# Altium footprint library SOT23-5_TEXAS_INSTRUMETNS.PcbLib: 1 footprints
Each footprint in its own frame and in the unit in brackets; x right, y up, seen from the top. Pads: shape width x height; smd on the part's side, far side on the other; paste and mask are expansions set on the pad; w line width, h text height; cw(c..) or ccw(c..) is an arc to the next point about the centre after c.
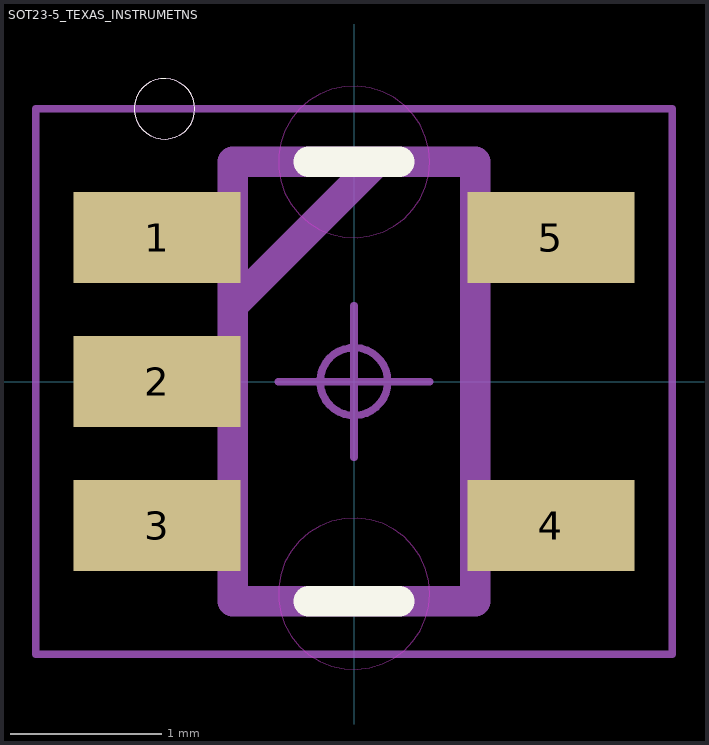
[diagram p0: the footprint, top view; thin cyan lines are the x and y axes]

## SOT23-5_TEXAS_INSTRUMETNS [mm]
pads (5):
  rect 1.1x0.6 smd paste-0.05: 1(-1.3,0.95) 2(-1.3,0) 3(-1.3,-0.95) 4(1.3,-0.95) 5(1.3,0.95)
Top Overlay:
  circle w0: c-1.25,1.8 r0.2
  lines w0.2: -0.3,-1.45 0.3,-1.45 ; -0.3,1.45 0.3,1.45
Top Paste:
  lines w0.05: -1.8,-1.15 ccw(c-1.75,-1.15) -1.75,-1.2 -0.85,-1.2 ccw(c-0.85,-1.15) -0.8,-1.15 -0.8,-0.75 ccw(c-0.85,-0.75) -0.85,-0.7 -1.75,-0.7 ccw(c-1.75,-0.75) -1.8,-0.75 -1.8,-1.15 ; -1.8,-0.2 ccw(c-1.75,-0.2) -1.75,-0.25 -0.85,-0.25 ccw(c-0.85,-0.2) -0.8,-0.2 -0.8,0.2 ccw(c-0.85,0.2) -0.85,0.25 -1.75,0.25 ccw(c-1.75,0.2) -1.8,0.2 -1.8,-0.2 ; -1.8,0.75 ccw(c-1.75,0.75) -1.75,0.7 -0.85,0.7 ccw(c-0.85,0.75) -0.8,0.75 -0.8,1.15 ccw(c-0.85,1.15) -0.85,1.2 -1.75,1.2 ccw(c-1.75,1.15) -1.8,1.15 -1.8,0.75 ; 0.8,-1.15 ccw(c0.85,-1.15) 0.85,-1.2 1.75,-1.2 ccw(c1.75,-1.15) 1.8,-1.15 1.8,-0.75 ccw(c1.75,-0.75) 1.75,-0.7 0.85,-0.7 ccw(c0.85,-0.75) 0.8,-0.75 0.8,-1.15 ; 0.8,0.75 ccw(c0.85,0.75) 0.85,0.7 1.75,0.7 ccw(c1.75,0.75) 1.8,0.75 1.8,1.15 ccw(c1.75,1.15) 1.75,1.2 0.85,1.2 ccw(c0.85,1.15) 0.8,1.15 0.8,0.75
Keep-Out Layer:
  circle w0: c0,1.45 r0.5
  circle w0: c0,-1.4 r0.5
Mechanical 13:
  circle w0: c-1.25,1.8 r0.2
  lines w0.2: -0.8,0.5 0.15,1.45 ; -0.8,-1.45 0.8,-1.45 0.8,1.45 -0.8,1.45 -0.8,-1.45
Mechanical 15:
  circle w0.05: c0,0 r0.224
  lines w0.05: -0.5,0 0.5,0 ; 0,-0.5 0,0.5 ; -2.1,-1.8 2.1,-1.8 2.1,1.8 -2.1,1.8 -2.1,-1.8
3D body "step_temp.STEP": height 1.3, standoff 0, extent -1.397,-1.448 1.397,1.448